# Altium footprint library AN9520-245.PcbLib: 1 footprints
Each footprint in its own frame and in the unit in brackets; x right, y up, seen from the top. Pads: shape width x height; smd on the part's side, far side on the other; paste and mask are expansions set on the pad; w line width, h text height; cw(c..) or ccw(c..) is an arc to the next point about the centre after c.
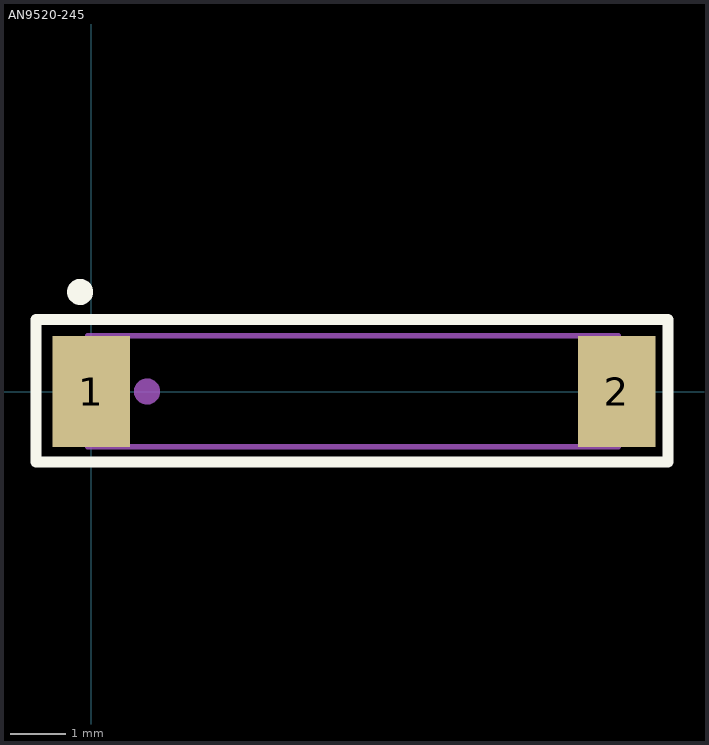
[diagram p0: the footprint, top view; thin cyan lines are the x and y axes]

## AN9520-245 [mm] "AN9520-245"
pads (2):
  rect 1.4x2 smd paste+0 mask+0.05: 1(0,0) 2(9.5,0)
Top Overlay:
  circle w0.254: c-0.2,1.8 r0.108
  lines w0.2: -1,-1.275 10.425,-1.275 10.425,1.3 -1,1.3 -1,-1.275
Top Assembly:
  circle w0.254: c1.01,0 r0.108
  lines w0.1: -0.06,-1 9.525,-1 9.525,1.01 -0.06,1.01 -0.06,-1
  text "'.Designator'" at 3.425,-0.175 h0.8
Mechanical 6:
  lines w0.05: -0.975,-1.275 -0.975,1.3 10.45,1.3 10.45,-1.275 -0.975,-1.275
  lines w0.1: -0.475,0 0.475,0 ; 0,-0.475 0,0.475
3D body: height 1.2, standoff 0, extent -0.05,-1 9.525,1